# Altium schematic symbol library 7499211125.SchLib: 2 symbols
Pins are listed as number, name and electrical type; pins without a type are passive.

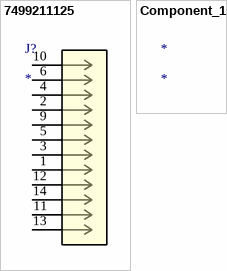
[diagram p0: symbols 7499211125 to Component_1]

## 7499211125
designator J?
No Description Available; Mfr_Name: Wurth Electronics; RefDes: RefDes; Type: Type
footprint CONN14_11125_WRE
pins: 1, 2, 3, 4, 5, 6, 9, 10, 11, 12, 13, 14

## Component_1
designator *